# Altium integrated library BMI-S-209-F.IntLib: 1 symbol
Pins are listed as number, name and electrical type; pins without a type are passive.

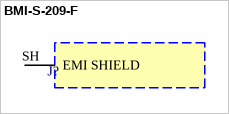
[diagram p0: symbol BMI-S-209-F]

## BMI-S-209-F
designator J?
RF Shield Frame 0.728 (18.50mm) X 1.156 (29.36mm) Solder; MP: BMI-S-209-F; MF: Laird Technologies; Package: None; SnapEDA_Link: https://www.snapeda.com/parts/BMI-S-209-F/Laird%20Technologies%20EMI/view-part/587698/?ref=snap; Mouser-Purchase-URL: https://snapeda.com/shop?store=Mouser&id=587698; DigiKey-Purchase-URL: https://snapeda.com/shop?store=DigiKey&id=587698; Availability: Unavailable; Value: *; Price: None
footprint LAIRD_BMI-S-209-F
pins: SH EMI SHIELD